# Altium footprint library WatchDogAlarm_rev1_3.PcbLib: 22 footprints (part 2 of 2)
Each footprint in its own frame and in the unit in brackets; x right, y up, seen from the top. Pads: shape width x height; smd on the part's side, far side on the other; paste and mask are expansions set on the pad; w line width, h text height; cw(c..) or ccw(c..) is an arc to the next point about the centre after c.
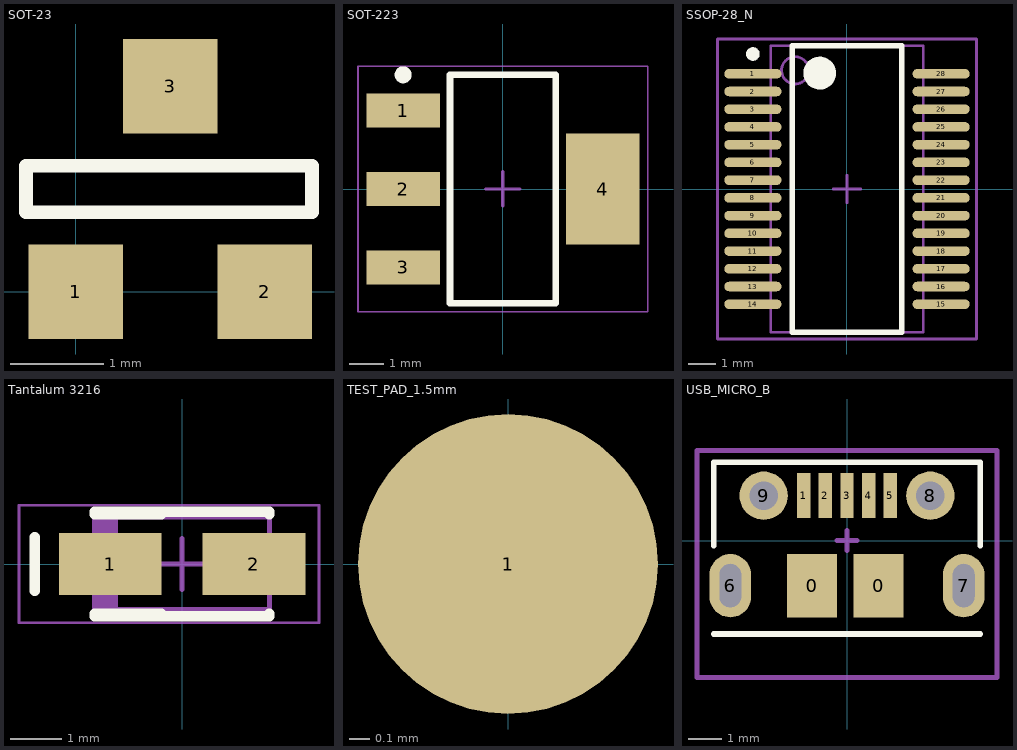
[diagram p1: the footprints below, top view; thin cyan lines are the x and y axes]

## SOT-23 [mil]
pads (3):
  rect 40x40 smd: 1(0,0) 2(80,0) 3(40,87)
Top Overlay:
  lines w5.91: -21.02,33.66 100,33.66 100,53.34 -21.02,53.34 -21.02,33.66
3D body "SOT-23.STEP": height 39.23, standoff -0.79, extent -17.89,-5.91 96.63,91.58

## SOT-223 [mm] "SOT223, 4-Leads, Body 6.5x3.5mm, Pitch 2.3mm, Lead Span 7mm, IPC Medium Density"
height 1.8
pads (4):
  rect 2.15x1 smd: 1(-2.925,2.3) 2(-2.925,0) 3(-2.925,-2.3)
  rect 2.15x3.25 smd: 4(2.925,0)
Top Overlay:
  circle w0.25: c-2.925,3.35 r0.125
  lines w0.2: -1.55,-3.35 -1.55,3.35 1.55,3.35 1.55,-3.35 -1.55,-3.35
Top Courtyard:
  lines w0.05: -4.25,-3.6 -4.25,3.6 4.25,3.6 4.25,-3.6 -4.25,-3.6
  lines w0.1: -0.5,0 0.5,0 ; 0,-0.5 0,0.5
3D body "SOT223.step": height 1.8, standoff 0, extent -3.5,-3.35 3.5,3.35

## SSOP-28_N [mm] "SOP, 28-Leads, Body 10.2x5.3mm, Pitch 0.65mm, IPC Medium Density"
height 2
pads (28):
  oval 2.1x0.35 smd: 1(-3.45,4.225) 2(-3.45,3.575) 3(-3.45,2.925) 4(-3.45,2.275) 5(-3.45,1.625) 6(-3.45,0.975) 7(-3.45,0.325) 8(-3.45,-0.325) 9(-3.45,-0.975) 10(-3.45,-1.625) 11(-3.45,-2.275) 12(-3.45,-2.925) 13(-3.45,-3.575) 14(-3.45,-4.225) 15(3.45,-4.225) 16(3.45,-3.575) 17(3.45,-2.925) 18(3.45,-2.275) 19(3.45,-1.625) 20(3.45,-0.975) 21(3.45,-0.325) 22(3.45,0.325) 23(3.45,0.975) 24(3.45,1.625) 25(3.45,2.275) 26(3.45,2.925) 27(3.45,3.575) 28(3.45,4.225)
Top Overlay:
  circle w0.25: c-3.45,4.95 r0.125
  circle w0.6: c-1,4.25 r0.3
  lines w0.2: -2,-5.25 -2,5.25 2,5.25 2,-5.25 -2,-5.25
Top Component Outline (Mech13):
  circle w0.1: c-1.9,4.35 r0.5
  lines w0.1: -2.8,-5.25 -2.8,5.25 2.8,5.25 2.8,-5.25 -2.8,-5.25
Top Courtyard:
  lines w0.1: -0.5,0 0.5,0 ; 0,-0.5 0,0.5 ; -4.75,-5.5 -4.75,5.5 4.75,5.5 4.75,-5.5 -4.75,-5.5
3D body: height 2, standoff 0.05, extent -2.8,-5.25 2.8,5.25

## Tantalum 3216 [mm]
pads (2):
  rect 2x1.2 smd: 1(-1.4,0) 2(1.4,0)
Top Overlay:
  lines w0.2: -2.87,-0.525 -2.87,0.525 ; -1.7,-1.016 1.7,-1.016 1.7,-0.966 ; -1.7,-0.966 -0.4,-0.966 ; -1.7,0.966 -0.4,0.966 ; -1.7,1.016 1.7,1.016 1.7,0.966
Top Component Outline (Mech13):
  rectangle: -1.7,-0.887 -1.243,0.913
  lines w0.1: -1.7,-0.887 -1.7,0.913 1.7,0.913 1.7,-0.887 -1.7,-0.887
Top Courtyard:
  lines w0.05: -3.175,-1.143 2.667,-1.143 2.667,1.143 -3.175,1.143 -3.175,-1.143
  lines w0.1: -0.5,0 0.5,0 ; 0,-0.5 0,0.5
3D body "tant_A.step": height 1.8, standoff 0, extent -1.66,-0.86 1.74,0.94

## TEST_PAD_1.5mm [mm]
pads (1):
  round 1.5 smd: 1(0,0)

## USB_MICRO_B [mm] "part num: 105017-0001.."
height 2.9
pads (11):
  rect 1.5x1.9 smd: 0(-1.05,-1.35) 0(0.95,-1.35)
  rect 0.4x1.35 smd: 1(-1.3,1.35) 2(-0.65,1.35) 3(0,1.35) 4(0.65,1.35) 5(1.3,1.35)
  oval 1.25x1.9 hole 0.65 slot 1.3 at 90 deg: 6(-3.5,-1.35) 7(3.5,-1.35)
  round 1.45 hole 0.85: 8(2.5,1.35) 9(-2.5,1.35)
Top Overlay:
  lines w0.17: -4,-2.8 4,-2.8 ; -4,-0.15 -4,2.35 4,2.35 4,-0.15
Top Courtyard:
  lines w0.15: -0.3,0 0.3,0 ; 0,-0.3 0,0.3 ; -4.5,-4.1 -4.5,2.7 4.5,2.7 4.5,-4.1 -4.5,-4.1
3D body "1050170001.stp": height 2.78, standoff -0.53, extent -4.1,-3.9 4.1,1.5